# Altium footprint library 0805(pol).PcbLib: 1 footprints
Each footprint in its own frame and in the unit in brackets; x right, y up, seen from the top. Pads: shape width x height; smd on the part's side, far side on the other; paste and mask are expansions set on the pad; w line width, h text height; cw(c..) or ccw(c..) is an arc to the next point about the centre after c.
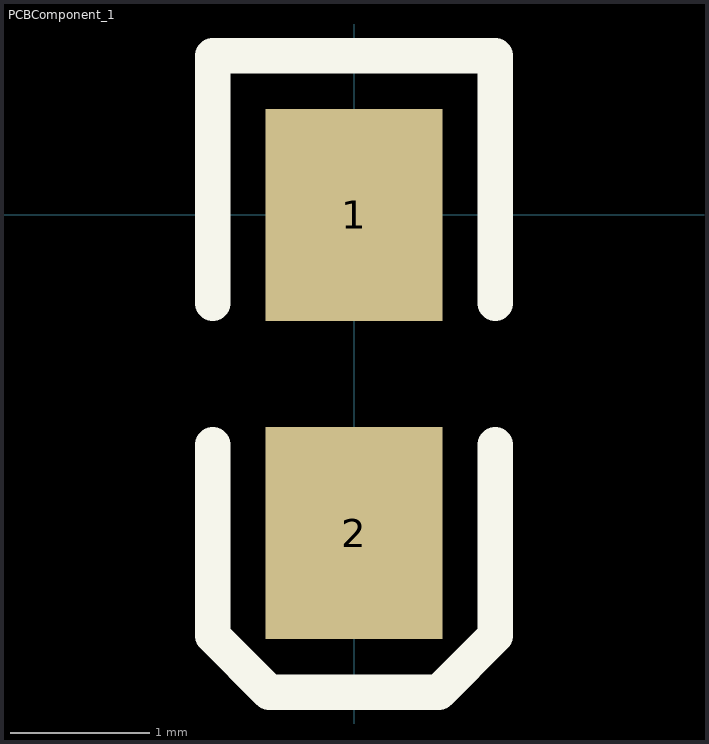
[diagram p0: the footprint, top view; thin cyan lines are the x and y axes]

## PCBComponent_1 [mil]
pads (2):
  rect 50x60 smd: 1(0,0) 2(0,-90)
Top Overlay:
  lines w10: -40,-65 -40,-119 -24,-135 24,-135 40,-119 40,-65 ; -40,-25 -40,45 40,45 40,-25